# Altium integrated library Hydrated_Buffs.IntLib: 18 symbols
Pins are listed as number, name and electrical type; pins without a type are passive.

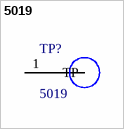
[diagram p0: symbol 5019]

## 5019
designator TP?
Phosphor Bronze Contact Miniature Silver Plated Surface Mount Test Points; MF: Keystone Electronics; Price: None; SnapEDA_Link: https://www.snapeda.com/parts/5019/Keystone%20Electronics/view-part/?ref=snap; MP: 5019; Package: 2010 Keystone; Availability: Unavailable; Value: *
footprint *TP380X203
pins: 1 TP


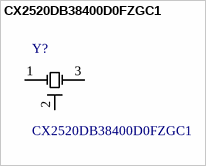
[diagram p1: symbol CX2520DB38400D0FZGC1]

## CX2520DB38400D0FZGC1
designator Y?
Crystal 38.4MHz 8pF 4-Pin SMD T/R; Manufacturer: Kyocera Electronic Components; Mouser Part Number: 581-CX2520DB3D0FZGC1; Manufacturer Part Number: CX2520DB38400D0FZGC1; MouserURL: https://www.mouser.com/ProductDetail/Kyocera-Electronic-Components/CX2520DB38400D0FZGC1?qs=BybUIy1AcUarvw5E5YY0vQ%3D%3D
footprint *OSCCC250X200X55N
pins: 1, 2 GND, 3


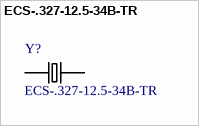
[diagram p2: symbol ECS-.327-12.5-34B-TR]

## ECS-.327-12.5-34B-TR
designator Y?
Crystal 0.032768MHz Â±20ppm _Tol_ 12.5pF Flexural 70000Ohm 2-Pin Mini-SMD T/R; Manufacturer: ECS; Mouser Part Number: 520-327-12.5-34B; Manufacturer: ECS-.327-12.5-34B-TR; MouserURL: https://www.mouser.com/ProductDetail/ECS/ECS-327-125-34B-TR?qs=xCP1SmiXvZHPyAjhnmNtEw%3D%3D
footprint *XTAL_ECS-.327-12.5-34B-TR
pins: 1, 2


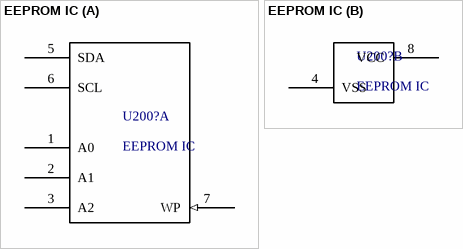
[diagram p3: symbol EEPROM IC]

## EEPROM IC
designator U200?
EEPROM 2K 256X8 SER EE 1.8V 18 I/O 10-BIT ADC; Manufacturer Part Number: 24AA024T-I/MNY; Manufacturer: Microchip Technology; Mouser Part Number: 579-24AA024T-I/MNY; MouserURL: https://www.mouser.com/ProductDetail/Microchip-Technology/24AA024T-I-MNY?qs=Gia6%252BsTQdYODIfKOLLxKRw%3D%3D
footprint *SON50P200X300X80-8N
part A pins: 1 A0, 2 A1, 3 A2, 5 SDA, 6 SCL, 7 WP (in)
part B pins: 4 VSS, 8 VCC


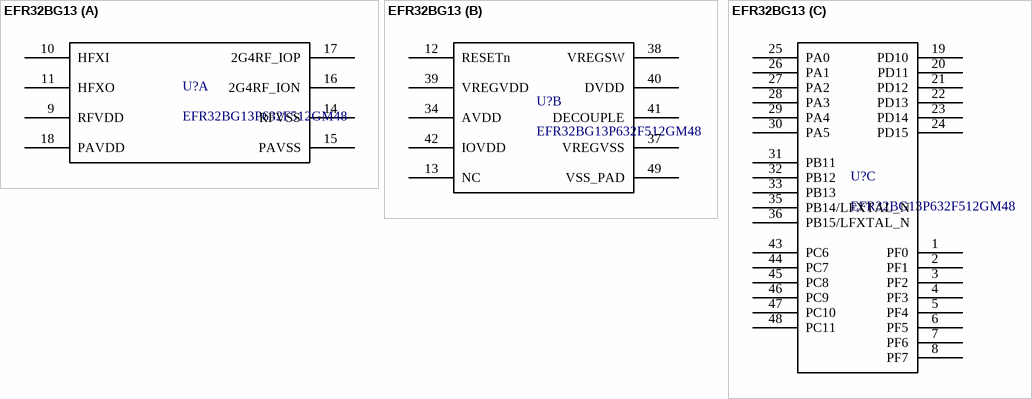
[diagram p4: symbol EFR32BG13]

## EFR32BG13
designator U?, comment EFR32BG13P632F512GM48
MCU; Manufacturer: Silicon Labs; Manufacturer Part Number: EFR32BG13P632F512GM48-BR; CompDescription: Data Sheet; Value: EFR32BG13P632F512GM48; CompURL: https://www.silabs.com/documents/public/data-sheets/efr32bg13-datasheet.pdf; Mouser Part Number: 634-EFR32BG13P632-BR; MouserURL: https://www.mouser.com/ProductDetail/Silicon-Labs/EFR32BG13P632F512GM48-BR?qs=5aG0NVq1C4xCQ7DNn6l3Yw%3D%3D
footprint *QFN50P700X700X90-49N
part A pins: 9 RFVDD, 10 HFXI, 11 HFXO, 14 RFVSS, 15 PAVSS, 16 2G4RF_ION, 17 2G4RF_IOP, 18 PAVDD
part B pins: 12 RESETn, 13 NC, 34 AVDD, 37 VREGVSS, 38 VREGSW, 39 VREGVDD, 40 DVDD, 41 DECOUPLE, 42 IOVDD, 49 VSS_PAD
part C pins: 1 PF0, 2 PF1, 3 PF2, 4 PF3, 5 PF4, 6 PF5, 7 PF6, 8 PF7, 19 PD10, 20 PD11, 21 PD12, 22 PD13, 23 PD14, 24 PD15, 25 PA0, 26 PA1, 27 PA2, 28 PA3, 29 PA4, 30 PA5, 31 PB11, 32 PB12, 33 PB13, 35 PB14/LFXTAL_N, 36 PB15/LFXTAL_N, 43 PC6, 44 PC7, 45 PC8, 46 PC9, 47 PC10, 48 PC11


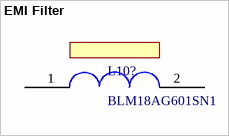
[diagram p5: symbol EMI Filter]

## EMI Filter
designator L10?, comment BLM18AG601SN1
Manufacturer Part Number: BLM18AG601SN1D; Manufacturer: Murata Electronics; Mouser Part Number: 81-BLM11A601S; MouserURL: https://www.mouser.com/ProductDetail/Murata-Electronics/BLM18AG601SN1D?qs=sGAEpiMZZMtdyQheitOmRV9%252B5BLdsWKJfntqGQ3IlAM%3D
footprint *CAPC0603X56N
pins: 1, 2


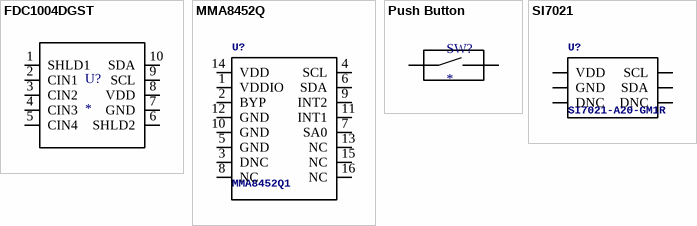
[diagram p6: symbols FDC1004DGST to SI7021]

## FDC1004DGST
designator U?
CAPACITIVE SENSING SOLUTIONS; Manufacturer: Texas Instruments; Manufacturer Part Number: FDC1004DGST; Digi-Key Part Number: 296-49639-1-ND; DigiKeyURL: https://www.digikey.com/products/en/integrated-circuits-ics/interface-sensor-capacitive-touch/560?k=FDC1004DGST&k=&pkeyword=FDC1004DGST&sv=0&pv7=2&sf=0&quantity=&ColumnSort=0&page=1&stock=1&datasheet=1&pageSize=25; Snapeda_URL: https://www.snapeda.com/parts/FDC1004DGST/Texas%20Instruments/view-part/?ref=search&t=FDC1004DGST
footprint FDC1004DGST
pins: 1 SHLD1, 2 CIN1, 3 CIN2, 4 CIN3, 5 CIN4, 6 SHLD2, 7 GND, 8 VDD, 9 SCL, 10 SDA

## MMA8452Q
designator U?, comment MMA8452Q1
ACCELEROMETER 2-8G I2C 16QFN; Manufacturer: NXP USA Inc.; Manufacturer Part Number: MMA8452QR1; Digi-Key Part Number: MMA8452QR1CT-ND; DigiKeyURL: https://www.digikey.com/products/en/sensors-transducers/motion-sensors-accelerometers/515?k=MMA8452Q&k=&pkeyword=MMA8452Q&sv=0&pv7=2&sf=0&FV=ffe00203&quantity=&ColumnSort=0&page=1&stock=1&datasheet=1&pageSize=25; Snapeda_URL: https://www.snapeda.com/parts/MMA8452QR1/NXP%20USA/view-part/?ref=search&t=MMA8452QR1
footprint QFN-16_0.5MM
footprint MMA8452Q1 (QFN-16_0.5MM)
pins: 1 VDDIO, 2 BYP, 3 DNC, 4 SCL, 5 GND, 6 SDA, 7 SA0, 8 NC, 9 INT2, 10 GND, 11 INT1, 12 GND, 13 NC, 14 VDD, 15 NC, 16 NC

## Push Button
designator SW?
SWITCH TACTILE SPST-NO 0.05A 24V; Manufacturer: TE Connectivity ALCOSWITCH Switches; Manufacturer Part Number: FSM6JSMATR; Digi-Key Part Number: 450-2058-1-ND; DigiKeyURL: https://www.digikey.com/products/en?keywords=450-2058-1-ND
footprint Push Button
pins: 1 2, 2, 3 1, 4 1

## SI7021
designator U?, comment SI7021-A20-GM1R
SENS HUMID/TEMP 3.6V I2C 2% 6DFN; Manufacturer: Silicon Labs; Digi-Key Part Number: 336-4380-1-ND; Manufacturer Part Number: SI7021-A20-GM1R; DigiKeyURL: https://www.digikey.com/product-detail/en/silicon-labs/SI7021-A20-GM1R/336-4380-1-ND/8038299; Snapeda_URL: https://www.snapeda.com/parts/SI7021-A20-GM1R/Silicon%20Labs/view-part/?ref=search&t=SI7021-A20-GM1R
footprint SI7021
pins: GND (power), NC@3 DNC (power), NC@4 DNC, SCL, SDA, VDD (power)


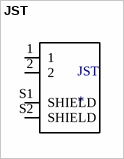
[diagram p7: symbol JST]

## JST
designator JST
SWITCH SLIDE SPDT 200MA 12V; Manufacturer: Nidec Copal Electronics; Manufacturer Part Number: CL-SB-12B-01T; Digi-Key Part Number: 563-1318-1-ND; DigiKeyURL: https://www.digikey.com/product-detail/en/nidec-copal-electronics/CL-SB-12B-01T/563-1318-1-ND/3507878; Snapeda_Url: https://www.snapeda.com/parts/CL-SB-12B-01T/Nidec%20Copal/view-part/?ref=search&t=CL-SB-12B-01T
footprint JST
pins: 1, 2, S1 SHIELD, S2 SHIELD


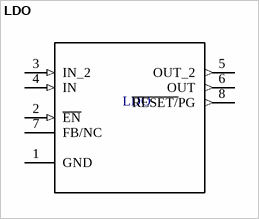
[diagram p8: symbol LDO]

## LDO
designator LDO  (value not drawn)
IC REG LINEAR 3.3V 750MA 8SOIC; Manufacturer: Texas Instruments; Manufacturer Part Number: TPS77833D; DigiKeyURL: https://www.digikey.com/product-detail/en/texas-instruments/TPS77833D/296-2792-5-ND/306665; Digi-Key Part Number: 296-2792-5-ND; Snapeda_Url: https://www.snapeda.com/parts/TPS77833D/Texas%20Instruments/view-part/?ref=search&t=TPS77833D
footprint LDO
pins: 1 GND, 2 ~{EN} (in), 3 IN_2 (in), 4 IN (in), 5 OUT_2 (out), 6 OUT (out), 7 FB/NC, 8 ~{RESET/}PG (out)


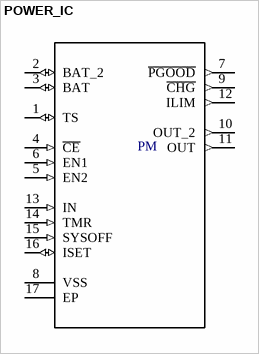
[diagram p9: symbol POWER_IC]

## POWER_IC
designator PM  (value not drawn)
IC LI-ION CHARGE MGMT 16-QFN; Manufacturer: Texas Instruments; Manufacturer Part Number: BQ24075RGTR; Snapeda_Url: https://www.snapeda.com/parts/BQ24075RGTT/Texas%20Instruments/view-part/?ref=snap; Digi-Key Part Number: 296-38874-1-ND; DigiKeyURL: https://www.digikey.com/products/en?keywords=296-38874-1-ND
footprint Power_management
pins: 1 TS (io), 2 BAT_2 (io), 3 BAT (io), 4 ~{CE} (in), 5 EN2 (in), 6 EN1 (in), 7 ~{PGOOD} (out), 8 VSS, 9 ~{CHG} (out), 10 OUT_2 (out), 11 OUT (out), 12 ILIM (out), 13 IN (in), 14 TMR (in), 15 SYSOFF (in), 16 ISET (io), 17 EP


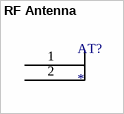
[diagram p10: symbol RF Antenna]

## RF Antenna
designator AT?
footprint PCBComponent_1
pins: 1, 2


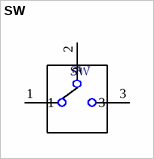
[diagram p11: symbol SW]

## SW
designator SW  (value not drawn)
SWITCH SLIDE SPDT 200MA 12V; Manufacturer: Nidec Copal Electronics; Manufacturer Part Number: CL-SB-12B-01T; DigiKeyURL: https://www.digikey.com/product-detail/en/nidec-copal-electronics/CL-SB-12B-01T/563-1318-1-ND/3507878; Digi-Key Part Number: 563-1318-1-ND; Snapeda_Url: https://www.snapeda.com/parts/CL-SB-12B-01T/Nidec%20Copal/view-part/?ref=search&t=CL-SB-12B-01T
footprint SW
pins: 1 (io), 2 (io), 3 (io)


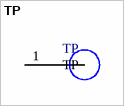
[diagram p12: symbol TP]

## TP
designator TP  (value not drawn)
PC TEST POINT MINIATURE; Manufacturer: Keystone Electronics; Manufacturer Part Number: 5019; DigiKeyURL: https://www.digikey.com/product-detail/en/keystone-electronics/5019/36-5019CT-ND/3907344?utm_source=snapeda&utm_medium=aggregator&utm_campaign=symbol; Digi-Key Part Number: 36-5019CT-ND; Snapeda_Url: https://www.snapeda.com/parts/5019/Keystone%20Electronics/view-part/?ref=search&t=5019
footprint TP
pins: 1 TP


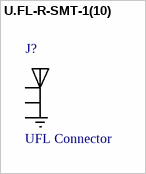
[diagram p13: symbol U.FL-R-SMT-1(10)]

## U.FL-R-SMT-1(10)
designator J?, comment UFL Connector
U.FL Series 6 Ghz 50 Ohm Ultra-small SMT Coaxial Cable Receptacle; Manufacturer Part Number: U.FL-R-SMT-1(10); Manufacturer: Hirose Connector; Mouser Part Number: 798-U.FL-R-SMT-110; MouserURL: https://www.mouser.com/ProductDetail/Hirose-Connector/UFL-R-SMT-110?qs=kL1ClTr6oBoOdtqlGQpQrQ%3D%3D
footprint *HRS_U.FL-R-SMT-1(10)
pins: 1 GND, 2 SIG, 3 GND


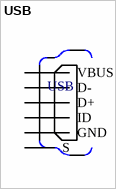
[diagram p14: symbol USB]

## USB
designator USB  (value not drawn)
CONN RCPT USB2.0 MICRO AB SMD RA; Manufacturer: Amphenol ICC (FCI); Manufacturer Part Number: 10104111-0001LF; Snapedu_Url: https://www.snapeda.com/parts/10104111-0001LF/Amphenol%20ICC/view-part/?ref=snap; DigiKeyURL: https://www.digikey.com/product-detail/en/amphenol-fci/10104111-0001LF/609-4053-1-ND/2350359?utm_source=snapeda&utm_medium=aggregator&utm_campaign=symbol; Digi-Key Part Number: 609-4053-1-ND
footprint USB
pins: 1 VBUS (power), 2 D-, 3 D+, 4 ID, 5 GND (power), 6 S (power), 7 S (power), 8 S (power), 9 S (power)